# Altium schematic symbol library LGL29K-F2J1-24-Z.SchLib: 1 symbol
Pins are listed as number, name and electrical type; pins without a type are passive.

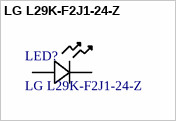
[diagram p0: symbol LG L29K-F2J1-24-Z]

## LG L29K-F2J1-24-Z
designator LED?
Description; Manufacturer_Name: ams OSRAM; Copyright: Copyright (C) 2025 Ultra Librarian. All rights reserved.; Manufacturer_Part_Number: LG L29K-F2J1-24-Z
footprint LED_1J2-1-Z_OSR
pins: 1, 2